# EAGLE library part MKL25Z128VLK4 (library mbed-HDK-MF-NXP)
Kinetis KL25: 48MHz Cortex-M0+ Ultra-Low Power MCU, 128KB Flash, 16KB SRAM, Full-Speed USB, 80-LQFP
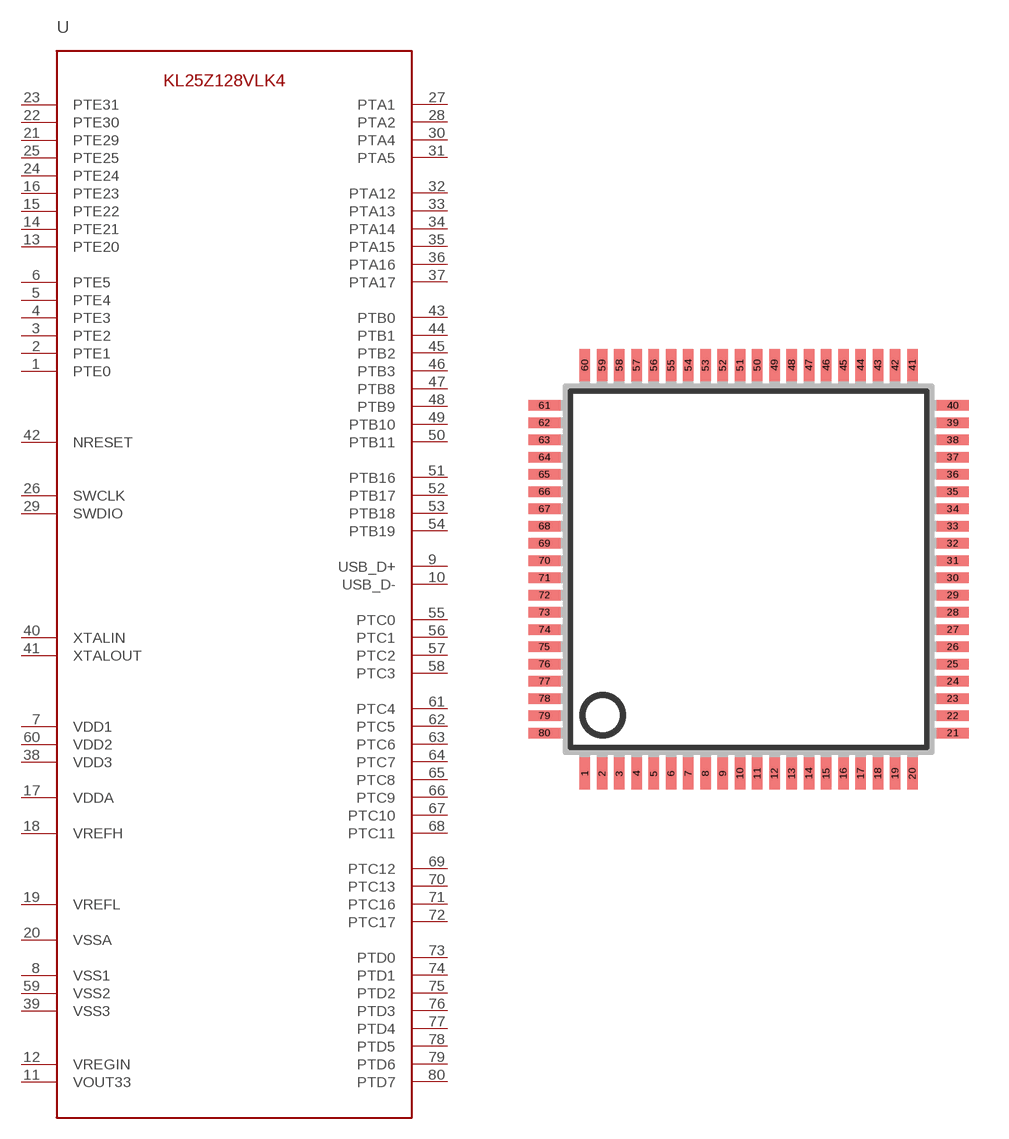
[diagram p0: symbol with the pads of LQFP80; footprint LQFP80]

Designator prefix U

## MKL25Z128VLK4 (MF: NXP; MFN: MKL25Z128VLK4; OC-DIGIKEY: MKL25Z128VLK4-ND; OC-MOUSER: 841-MKL25Z128VLK4; OC-NEWARK: 44W0180)  [LQFP80]
1  PTE0
2  PTE1
3  PTE2
4  PTE3
5  PTE4
6  PTE5
7  VDD1
8  VSS1
9  USB_D+
10  USB_D-
11  VOUT33
12  VREGIN
13  PTE20
14  PTE21
15  PTE22
16  PTE23
17  VDDA
18  VREFH
19  VREFL
20  VSSA
21  PTE29
22  PTE30
23  PTE31
24  PTE24
25  PTE25
26  SWCLK
27  PTA1
28  PTA2
29  SWDIO
30  PTA4
31  PTA5
32  PTA12
33  PTA13
34  PTA14
35  PTA15
36  PTA16
37  PTA17
38  VDD3
39  VSS3
40  XTALIN
41  XTALOUT
42  NRESET
43  PTB0
44  PTB1
45  PTB2
46  PTB3
47  PTB8
48  PTB9
49  PTB10
50  PTB11
51  PTB16
52  PTB17
53  PTB18
54  PTB19
55  PTC0
56  PTC1
57  PTC2
58  PTC3
59  VSS2
60  VDD2
61  PTC4
62  PTC5
63  PTC6
64  PTC7
65  PTC8
66  PTC9
67  PTC10
68  PTC11
69  PTC12
70  PTC13
71  PTC16
72  PTC17
73  PTD0
74  PTD1
75  PTD2
76  PTD3
77  PTD4
78  PTD5
79  PTD6
80  PTD7

## Footprint LQFP80 (pad centres in mm)
80 Lead LQFP_ED (SQ-80) (ST-80) www.analog.com AD9852_b.pdf
smd 0.4 x 1.2: 1 -6.175,-7.7; 2 -5.525,-7.7; 3 -4.875,-7.7; 4 -4.225,-7.7; 5 -3.575,-7.7; 6 -2.925,-7.7; 7 -2.275,-7.7; 8 -1.625,-7.7; 9 -0.975,-7.7; 10 -0.325,-7.7; 11 0.325,-7.7; 12 0.975,-7.7; 13 1.625,-7.7; 14 2.275,-7.7; 15 2.925,-7.7; 16 3.575,-7.7; 17 4.225,-7.7; 18 4.875,-7.7; 19 5.525,-7.7; 20 6.175,-7.7; 41 6.175,7.7; 42 5.525,7.7; 43 4.875,7.7; 44 4.225,7.7; 45 3.575,7.7; 46 2.925,7.7; 47 2.275,7.7; 48 1.625,7.7; 49 0.975,7.7; 50 0.325,7.7; 51 -0.325,7.7; 52 -0.975,7.7; 53 -1.625,7.7; 54 -2.275,7.7; 55 -2.925,7.7; 56 -3.575,7.7; 57 -4.225,7.7; 58 -4.875,7.7; 59 -5.525,7.7; 60 -6.175,7.7
smd 1.2 x 0.4: 21 7.7,-6.175; 22 7.7,-5.525; 23 7.7,-4.875; 24 7.7,-4.225; 25 7.7,-3.575; 26 7.7,-2.925; 27 7.7,-2.275; 28 7.7,-1.625; 29 7.7,-0.975; 30 7.7,-0.325; 31 7.7,0.325; 32 7.7,0.975; 33 7.7,1.625; 34 7.7,2.275; 35 7.7,2.925; 36 7.7,3.575; 37 7.7,4.225; 38 7.7,4.875; 39 7.7,5.525; 40 7.7,6.175; 61 -7.7,6.175; 62 -7.7,5.525; 63 -7.7,4.875; 64 -7.7,4.225; 65 -7.7,3.575; 66 -7.7,2.925; 67 -7.7,2.275; 68 -7.7,1.625; 69 -7.7,0.975; 70 -7.7,0.325; 71 -7.7,-0.325; 72 -7.7,-0.975; 73 -7.7,-1.625; 74 -7.7,-2.275; 75 -7.7,-2.925; 76 -7.7,-3.575; 77 -7.7,-4.225; 78 -7.7,-4.875; 79 -7.7,-5.525; 80 -7.7,-6.175